# EAGLE library part PI5USB30213A (library pimoroni-ics)
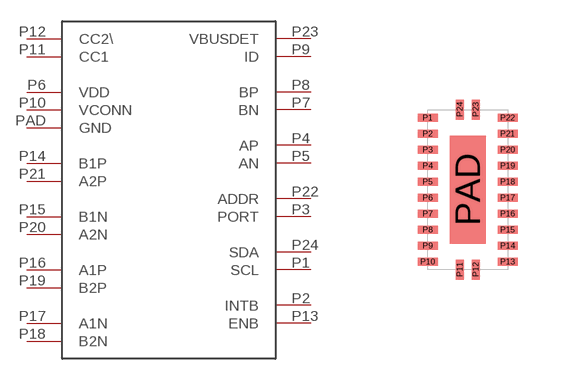
[diagram p179: symbol with the pads of QFN-24-2X4; footprint QFN-24-2X4]

Designator prefix -

## PI5USB30213A  [QFN-24-2X4]
P1  SCL
P2  INTB
P3  PORT
P4  AP
P5  AN
P6  VDD
P7  BN
P8  BP
P9  ID
P10  VCONN
P11  CC1
P12  CC2\
P13  ENB
P14  B1P
P15  B1N
P16  A1P
P17  A1N
P18  B2N
P19  B2P
P20  A2N
P21  A2P
P22  ADDR
P23  VBUSDET
P24  SDA
PAD  GND

## Footprint QFN-24-2X4 (pad centres in mm)
smd 0.5 x 0.2: P1 -1,1.8; P2 -1,1.4; P3 -1,1; P4 -1,0.6; P5 -1,0.2; P6 -1,-0.2; P7 -1,-0.6; P8 -1,-1; P9 -1,-1.4; P10 -1,-1.8; P13 1,-1.8; P14 1,-1.4; P15 1,-1; P16 1,-0.6; P17 1,-0.2; P18 1,0.2; P19 1,0.6; P20 1,1; P21 1,1.4; P22 1,1.8
smd 0.2 x 0.5: P11 -0.2,-2; P12 0.2,-2; P23 0.2,2; P24 -0.2,2
smd 0.9 x 2.7: PAD 0,0